# Altium footprint library Footprints.PcbLib: 1 footprints
Each footprint in its own frame and in the unit in brackets; x right, y up, seen from the top. Pads: shape width x height; smd on the part's side, far side on the other; paste and mask are expansions set on the pad; w line width, h text height; cw(c..) or ccw(c..) is an arc to the next point about the centre after c.
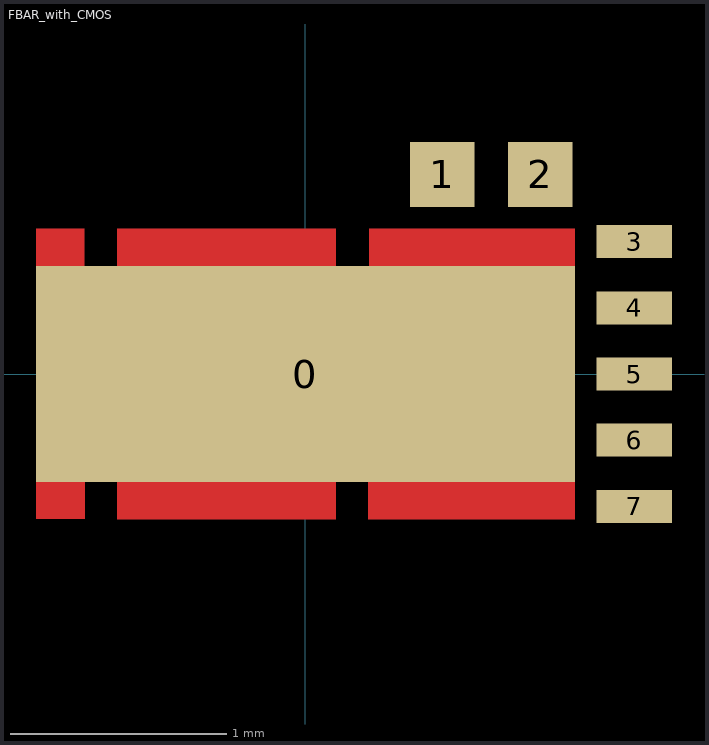
[diagram p0: the footprint, top view; thin cyan lines are the x and y axes]

## FBAR_with_CMOS [mm]
height 0.5
pads (8):
  rect 2.5x1.003 smd: 0(0,0)
  rect 0.3x0.3 smd: 1(0.634,0.925) 2(1.088,0.925)
  rect 0.35x0.153 smd: 3(1.525,0.614) 4(1.525,0.307) 5(1.525,0) 6(1.525,-0.307) 7(1.525,-0.614)
Top Layer:
  rectangle: 0.295,0.501 1.25,0.675
  rectangle: -0.873,0.501 0.141,0.675
  rectangle: -1.25,0.501 -1.023,0.675
  rectangle: -1.25,-0.673 -1.023,-0.501
  rectangle: -0.873,-0.674 0.141,-0.501
  rectangle: 0.29,-0.674 1.25,-0.501